# Altium schematic symbol library SCH - MEMORY - MICROCHIP EEPROM SPI 6 PIN.SchLib: 1 symbol
Pins are listed as number, name and electrical type; pins without a type are passive.

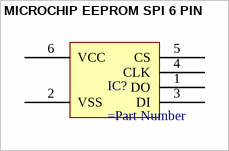
[diagram p0: symbol MICROCHIP EEPROM SPI 6 PIN]

## MICROCHIP EEPROM SPI 6 PIN
designator IC?
pins: 1 DO, 2 VSS, 3 DI, 4 CLK, 5 CS, 6 VCC